# EAGLE library part LTC4354* (library linear-technology-2)
Negative Voltage Diode-OR Controller and Monitor
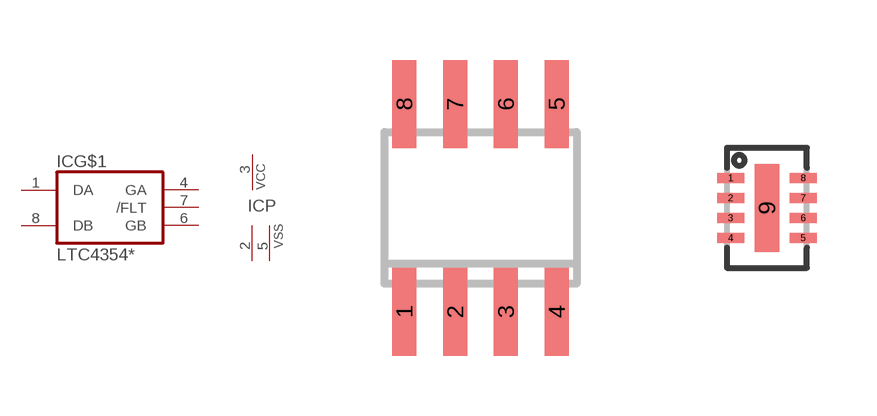
[diagram p44: symbol with the pads of SO08; footprints SO08, DFN8]

Designator prefix IC; gates G$1=LTC4354 P=PWRN-C-SS

## LTC4354CS8, LTC4354IS8  [SO08]
1  G$1:DA  in
2  P:VSS  pwr
3  P:VCC  pwr
4  G$1:GA  out
5  P:VSS  pwr
6  G$1:GB  out
7  G$1:/FLT  oc
8  G$1:DB  in

## LTC4354CDDB, LTC4354IDDB  [DFN8]
Pads as for SO08

## Footprint SO08 (pad centres in mm)
Small Outline IC
smd 0.6 x 2.2: 1 -1.905,-2.6; 2 -0.635,-2.6; 3 0.635,-2.6; 4 1.905,-2.6; 5 1.905,2.6; 6 0.635,2.6; 7 -0.635,2.6; 8 -1.905,2.6

## Footprint DFN8 (pad centres in mm)
smd 0.675 x 0.25: 1 -0.91,0.75; 2 -0.91,0.25; 3 -0.91,-0.25; 4 -0.91,-0.75; 5 0.91,-0.75; 6 0.91,-0.25; 7 0.91,0.25; 8 0.91,0.75
smd 0.61 x 2.2: 9 0,0